# Altium schematic symbol library ТРАНЗИСТОРЫ-MM.SchLib: 79 symbols
Pins are listed as number, name and electrical type; pins without a type are passive.

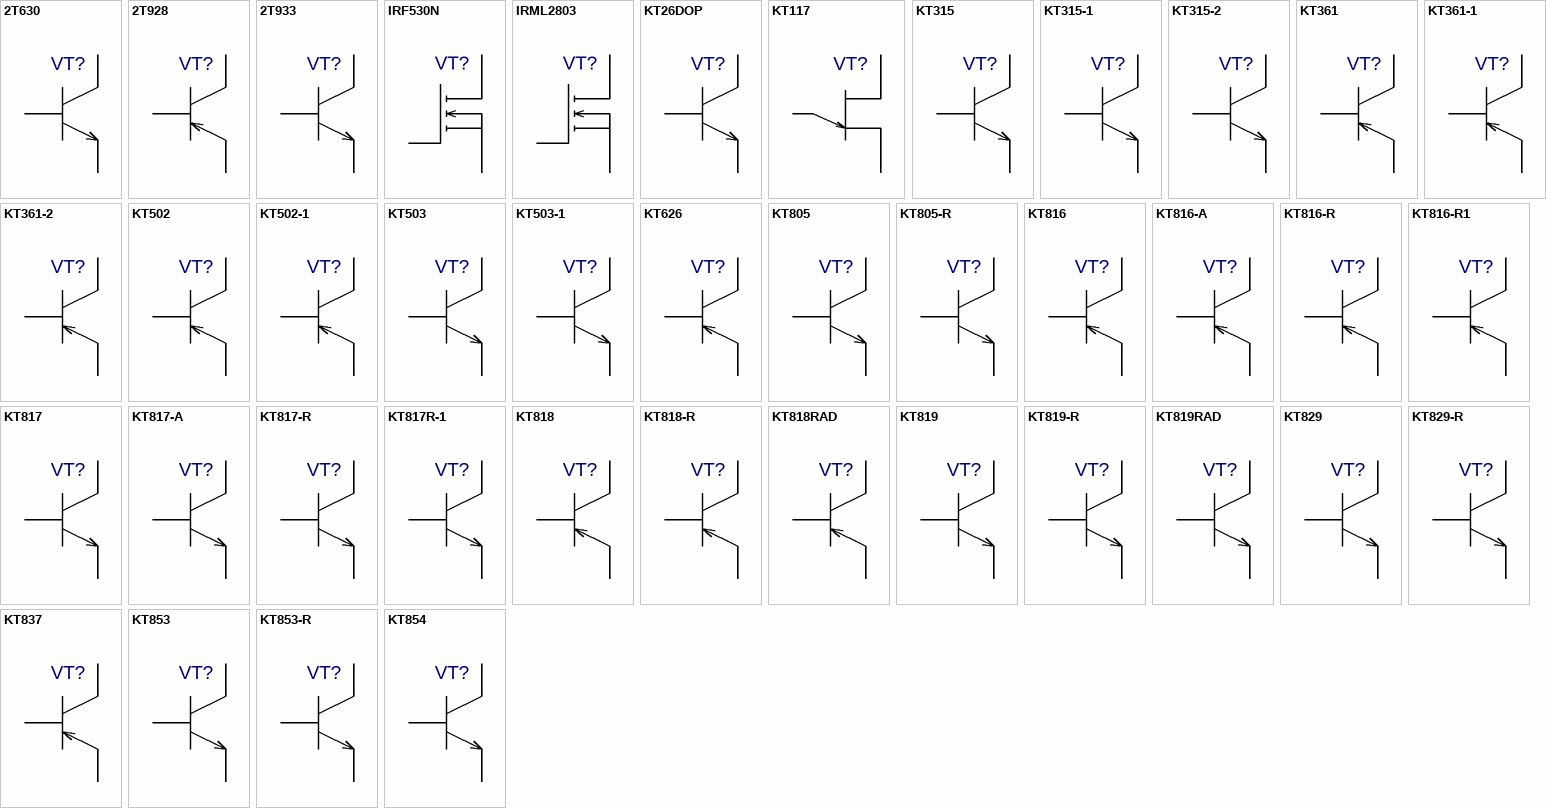
[diagram p0: symbols 2T630 to KT854]

## 2T630
designator VT?  (value not drawn)
Value: *
footprint KT630
pins: 1 E, 2 B, 3 K

## 2T928
designator VT?  (value not drawn)
Value: *
footprint KT-12
pins: 1 E, 2 B, 3 K

## 2T933
designator VT?  (value not drawn)
Value: *
footprint KT-12
pins: 1 E, 2 B, 3 K

## IRF530N
designator VT?  (value not drawn)
Value: *
footprint KT28-1_IRF530N(Primary)
pins: 1 Z, 2 I, 3 S

## IRML2803
designator VT?  (value not drawn)
Value: *
footprint SOT23-A
pins: 1 S, 2 Z, 3 I

## KT26DOP
designator VT?  (value not drawn)
Value: *
footprint KT26-DOP
pins: 1 E, 2 B, 3 K

## KT117
designator VT?  (value not drawn)
Value: *
footprint KT117
pins: 1 E, 2 B, 3 K

## KT315
designator VT?  (value not drawn)
Value: *
footprint KT13
pins: 1 E, 2 B, 3 K

## KT315-1
designator VT?  (value not drawn)
Value: *
footprint KT13-1
pins: 1 E, 2 B, 3 K

## KT315-2
designator VT?  (value not drawn)
Value: *
footprint KT13-2
pins: 1 E, 2 B, 3 K

## KT361
designator VT?  (value not drawn)
Value: *
footprint KT13
pins: 1 E, 2 B, 3 K

## KT361-1
designator VT?  (value not drawn)
Value: *
footprint KT13-1
pins: 1 E, 2 B, 3 K

## KT361-2
designator VT?  (value not drawn)
Value: *
footprint KT13-2
pins: 1 E, 2 B, 3 K

## KT502
designator VT?  (value not drawn)
Value: *
footprint KT26-1
pins: 1 E, 2 B, 3 K

## KT502-1
designator VT?  (value not drawn)
Value: *
footprint KT26-2
pins: 1 E, 2 B, 3 K

## KT503
designator VT?  (value not drawn)
Value: *
footprint KT26-1
pins: 1 E, 2 B, 3 K

## KT503-1
designator VT?  (value not drawn)
Value: *
footprint KT26-2
pins: 1 E, 2 B, 3 K

## KT626
designator VT?  (value not drawn)
Value: *
footprint KT27A
pins: 1 E, 2 B, 3 K

## KT805
designator VT?  (value not drawn)
Value: *
footprint KT28
pins: 1 E, 2 B, 3 K

## KT805-R
designator VT?  (value not drawn)
Value: *
footprint KT28R
pins: 1 E, 2 B, 3 K, 4 hidden

## KT816
designator VT?  (value not drawn)
Value: *
footprint KT27
pins: 1 E, 2 B, 3 K

## KT816-A
designator VT?  (value not drawn)
Value: *
footprint KT27A
pins: 1 E, 2 B, 3 K

## KT816-R
designator VT?  (value not drawn)
Value: *
footprint KT27R
pins: 1 E, 2 B, 3 K

## KT816-R1
designator VT?  (value not drawn)
Value: *
footprint KT27R1
pins: 1 E, 2 B, 3 K

## KT817
designator VT?  (value not drawn)
Value: *
footprint KT27
pins: 1 E, 2 B, 3 K

## KT817-A
designator VT?  (value not drawn)
Value: *
footprint KT27A
pins: 1 OUT, 2 IN, 3 I/O

## KT817-R
designator VT?  (value not drawn)
Value: *
footprint KT27R
pins: 1 OUT, 2 IN, 3 I/O

## KT817R-1
designator VT?  (value not drawn)
Value: *
footprint KT27R1_KT817R-1(Primary)
pins: 1 E, 2 K, 3 B

## KT818
designator VT?  (value not drawn)
Value: *
footprint KT28
pins: 1 E, 2 B, 3 K

## KT818-R
designator VT?  (value not drawn)
Value: *
footprint KT28R
pins: 1 E, 2 B, 3 K, 4 hidden

## KT818RAD
designator VT?  (value not drawn)
Value: *
footprint KT28RAD
pins: 1 E, 2 B, 3 K

## KT819
designator VT?  (value not drawn)
Value: *
footprint KT28
pins: 1 E, 2 B, 3 K

## KT819-R
designator VT?  (value not drawn)
Value: *
footprint KT28R
pins: 1 E, 2 B, 3 K, 4 hidden

## KT819RAD
designator VT?  (value not drawn)
Value: *
footprint KT28RAD
pins: 1 E, 2 B, 3 K

## KT829
designator VT?  (value not drawn)
Value: *
footprint KT28-2
pins: 1 E, 2 B, 3 K

## KT829-R
designator VT?  (value not drawn)
Value: *
footprint KT28-2R
pins: 1 E, 2 B, 3 K, 4 hidden

## KT837
designator VT?  (value not drawn)
Value: *
footprint KT28-1_KT837(Primary)
pins: 1 E, 2 K, 3 B

## KT853
designator VT?  (value not drawn)
Value: *
footprint KT28
pins: 1 E, 2 B, 3 K

## KT853-R
designator VT?  (value not drawn)
Value: *
footprint KT28R
pins: 1 E, 2 B, 3 K, 4 hidden

## KT854
designator VT?  (value not drawn)
Value: *
footprint KT28-2
pins: 1 E, 2 B, 3 K

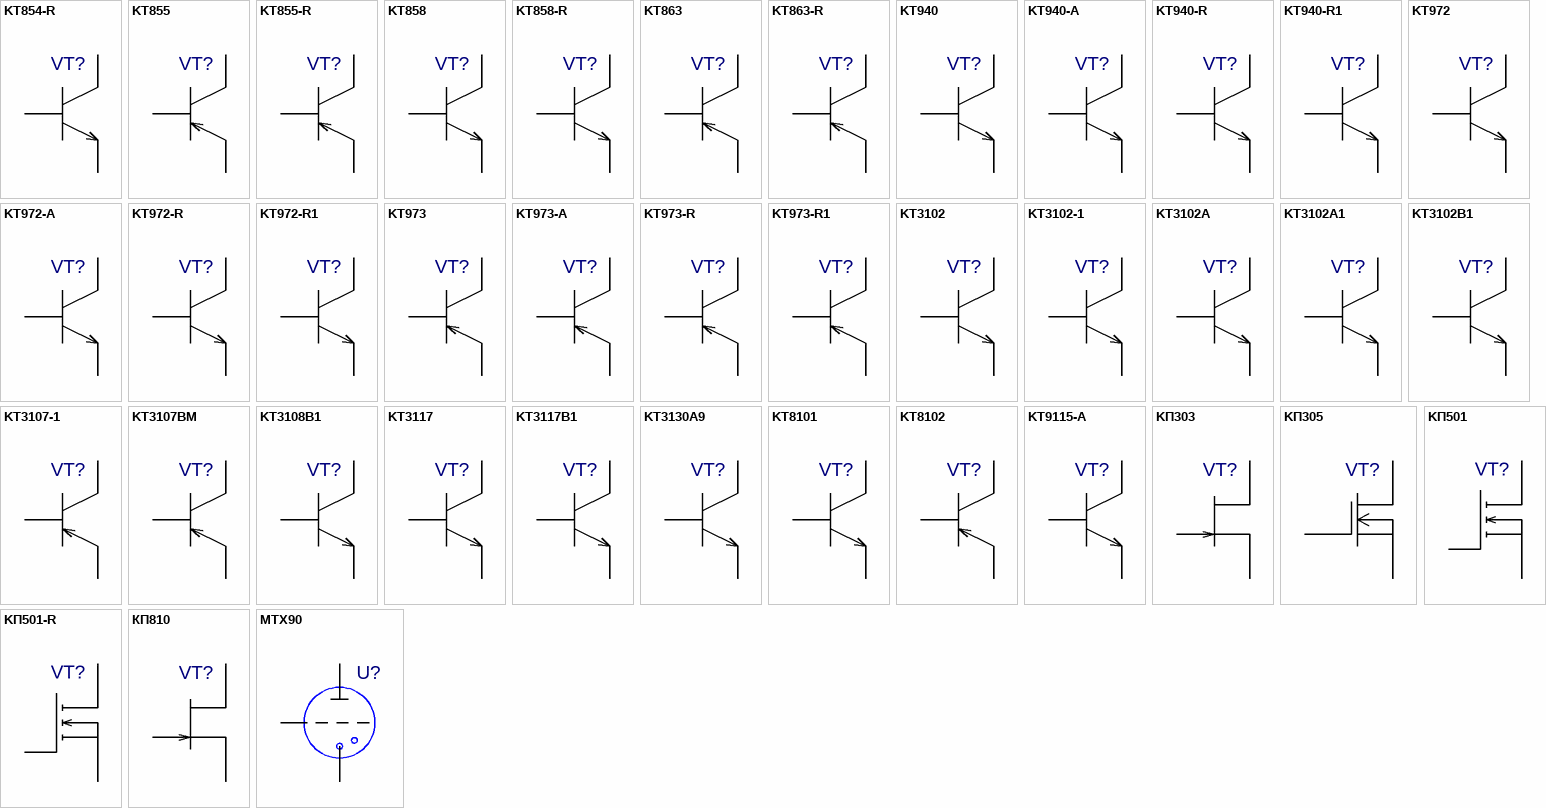
[diagram p1: symbols KT854-R to МТХ90]

## KT854-R
designator VT?  (value not drawn)
Value: *
footprint KT28-2R
pins: 1 E, 2 B, 3 K, 4 hidden

## KT855
designator VT?  (value not drawn)
Value: *
footprint KT28-2
pins: 1 E, 2 B, 3 K

## KT855-R
designator VT?  (value not drawn)
Value: *
footprint KT28-2R
pins: 1 E, 2 B, 3 K, 4 hidden

## KT858
designator VT?  (value not drawn)
Value: *
footprint KT28-2
pins: 1 E, 2 B, 3 K

## KT858-R
designator VT?  (value not drawn)
Value: *
footprint KT28-2R
pins: 1 E, 2 B, 3 K, 4 hidden

## KT863
designator VT?  (value not drawn)
Value: *
footprint KT28-2
pins: 1 E, 2 B, 3 K

## KT863-R
designator VT?  (value not drawn)
Value: *
footprint KT28-2R
pins: 1 E, 2 B, 3 K, 4 hidden

## KT940
designator VT?  (value not drawn)
Value: *
footprint KT27
pins: 1 E, 2 B, 3 K

## KT940-A
designator VT?  (value not drawn)
Value: *
footprint KT27A
pins: 1 E, 2 B, 3 K

## KT940-R
designator VT?  (value not drawn)
Value: *
footprint KT27R
pins: 1 E, 2 B, 3 K

## KT940-R1
designator VT?  (value not drawn)
Value: *
footprint KT27R1
pins: 1 E, 2 B, 3 K

## KT972
designator VT?  (value not drawn)
Value: *
footprint KT27
pins: 1 E, 2 B, 3 K

## KT972-A
designator VT?  (value not drawn)
Value: *
footprint KT27A
pins: 1 E, 2 B, 3 K

## KT972-R
designator VT?  (value not drawn)
Value: *
footprint KT27R
pins: 1 E, 2 B, 3 K

## KT972-R1
designator VT?  (value not drawn)
Value: *
footprint KT27R1
pins: 1 E, 2 B, 3 K

## KT973
designator VT?  (value not drawn)
Value: *
footprint KT27
pins: 1 E, 2 B, 3 K

## KT973-A
designator VT?  (value not drawn)
Value: *
footprint KT27A
pins: 1 E, 2 B, 3 K

## KT973-R
designator VT?  (value not drawn)
Value: *
footprint KT27R
pins: 1 E, 2 B, 3 K

## KT973-R1
designator VT?  (value not drawn)
Value: *
footprint KT27R1
pins: 1 E, 2 B, 3 K

## KT3102
designator VT?  (value not drawn)
Value: *
footprint KT26-1
pins: 1 E, 2 B, 3 K

## KT3102-1
designator VT?  (value not drawn)
Value: *
footprint KT26-2
pins: 1 E, 2 B, 3 K

## KT3102A
designator VT?  (value not drawn)
Value: *
footprint KT3102A
pins: 1 E, 2 B, 3 K

## KT3102A1
designator VT?  (value not drawn)
Value: *
footprint KT-1-12A
pins: 1 E, 2 B, 3 K

## KT3102B1
designator VT?  (value not drawn)
Value: *
footprint KT-1-12B
pins: 1 E, 2 B, 3 K

## KT3107-1
designator VT?  (value not drawn)
Value: *
footprint KT26-2
pins: 1 E, 2 B, 3 K

## KT3107BM
designator VT?  (value not drawn)
Value: *
footprint KT26-1
pins: 1 E, 2 B, 3 K

## KT3108B1
designator VT?  (value not drawn)
Value: *
footprint KT-1-12B
pins: 1 E, 2 B, 3 K

## KT3117
designator VT?  (value not drawn)
Value: *
footprint KT-1-12A
pins: 1 E, 2 B, 3 K

## KT3117B1
designator VT?  (value not drawn)
Value: *
footprint KT-1-12B
pins: 1 E, 2 B, 3 K

## KT3130A9
designator VT?  (value not drawn)
Value: *
footprint SOT-23
pins: 1 B, 2 K, 3 E

## KT8101
designator VT?  (value not drawn)
Value: *
footprint KT8101
pins: 1 E, 2 B, 3 K

## KT8102
designator VT?  (value not drawn)
Value: *
footprint KT8102
pins: 1 E, 2 B, 3 K

## KT9115-A
designator VT?  (value not drawn)
Value: *
footprint KT27A
pins: 1 E, 2 B, 3 K

## KП303
designator VT?  (value not drawn)
Value: *
footprint KT-1-12
pins: 1 I, 2 Z, 3 S, 4 hidden

## KП305
designator VT?  (value not drawn)
Value: *
footprint KT-1-12
pins: 1 I, 2 Z, 3 S, 4 hidden

## KП501
designator VT?  (value not drawn)
Value: *
footprint KT28
pins: 1 OUT, 2 IN, 3 I/O

## KП501-R
designator VT?  (value not drawn)
Value: *
footprint KT28R
pins: 1 I, 2 Z, 3 S, 4 hidden

## КП810
designator VT?  (value not drawn)
Value: *
footprint KP810
pins: 1 I, 2 Z, 3 S

## МТХ90
designator U?  (value not drawn)
Value: *
pins: 1 0, 2 1, 3 2